# Altium schematic symbol library LT1965-MSOP08-ADJ.SchLib: 1 symbol
Pins are listed as number, name and electrical type; pins without a type are passive.

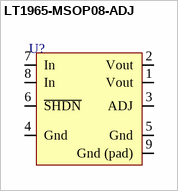
[diagram p0: symbol LT1965-MSOP08-ADJ]

## LT1965-MSOP08-ADJ
designator U?  (value not drawn)
pins: 1 Vout, 2 Vout, 3 ADJ, 4 Gnd, 5 Gnd, 6 ~{SHDN}, 7 In, 8 In, 9 Gnd (pad)